# EAGLE library part LTC1427CS8-50#PBF (library LTC1427CS8-50#PBF)
LINEAR TECHNOLOGY - LTC1427CS8-50#PBF - DAC, CURRENT OUTPUT, 10BIT, NSOIC-10 Source: Datasheet <https://datasheet.datasheetarchive.com/originals/distributors/Datasheets-17/DSA-322129.pdf>
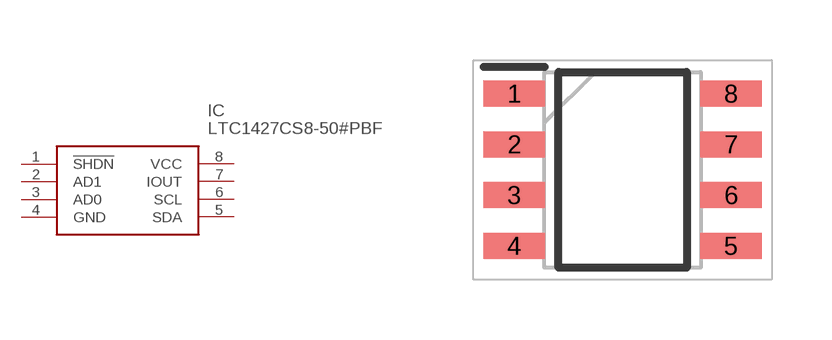
[diagram p0: symbol with the pads of SOIC127P599X175-8N; footprint SOIC127P599X175-8N]

Designator prefix IC

## LTC1427CS8-50#PBF (Description: LINEAR TECHNOLOGY - LTC1427CS8-50#PBF - DAC, CURRENT OUTPUT, 10BIT, NSOIC-10; Height: 1.752mm; Manufacturer_Name: Analog Devices; Manufacturer_Part_Number: LTC1427CS8-50#PBF; Mouser_Part_Number: 584-LTC1427CS8-50PBF; Mouser_Price-Stock: https://www.mouser.co.uk/ProductDetail/Analog-Devices/LTC1427CS8-50PBF?qs=hVkxg5c3xu82jOB7HsPGTw%3D%3D)  [SOIC127P599X175-8N]
1  !SHDN
2  AD1
3  AD0
4  GND
5  SDA
6  SCL
7  IOUT
8  VCC

## Footprint SOIC127P599X175-8N (pad centres in mm)
S8-8Lead Plastic Small Outline(narrow 0.150 inch)
smd 1.526 x 0.65: 1 -2.712,1.905; 2 -2.712,0.635; 3 -2.712,-0.635; 4 -2.712,-1.905; 5 2.712,-1.905; 6 2.712,-0.635; 7 2.712,0.635; 8 2.712,1.905